# Altium footprint library RES_ERJB3CFR15V.PcbLib: 1 footprints
Each footprint in its own frame and in the unit in brackets; x right, y up, seen from the top. Pads: shape width x height; smd on the part's side, far side on the other; paste and mask are expansions set on the pad; w line width, h text height; cw(c..) or ccw(c..) is an arc to the next point about the centre after c.
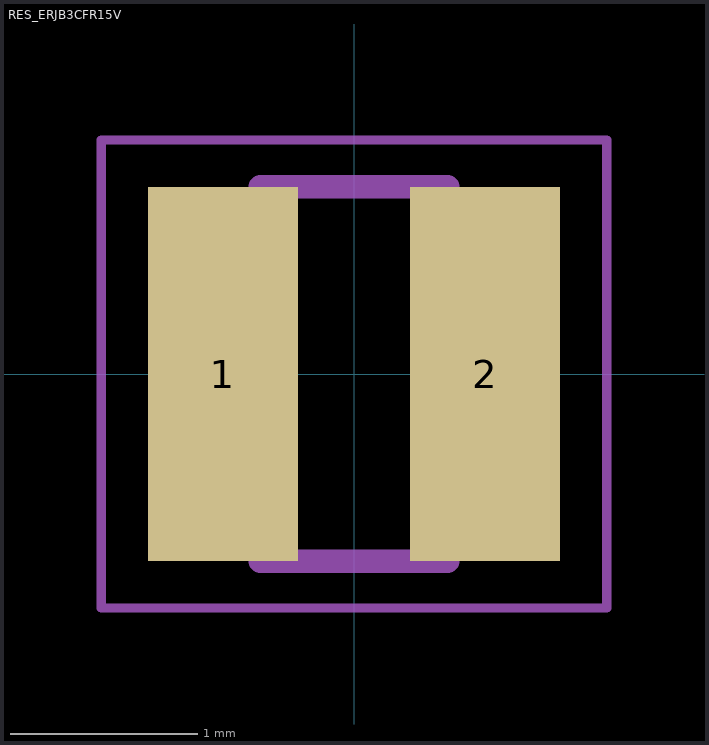
[diagram p0: the footprint, top view; thin cyan lines are the x and y axes]

## RES_ERJB3CFR15V [mm]
pads (2):
  rect 0.8x2 smd: 1(-0.7,0) 2(0.7,0)
Mechanical 13:
  lines w0.127: -0.5,-1 -0.5,1 0.5,1 0.5,-1 -0.5,-1
Mechanical 15:
  lines w0.05: -1.35,-1.25 -1.35,1.25 1.35,1.25 1.35,-1.25 -1.35,-1.25